# Altium schematic symbol library Switches.SchLib: 8 symbols
Pins are listed as number, name and electrical type; pins without a type are passive.

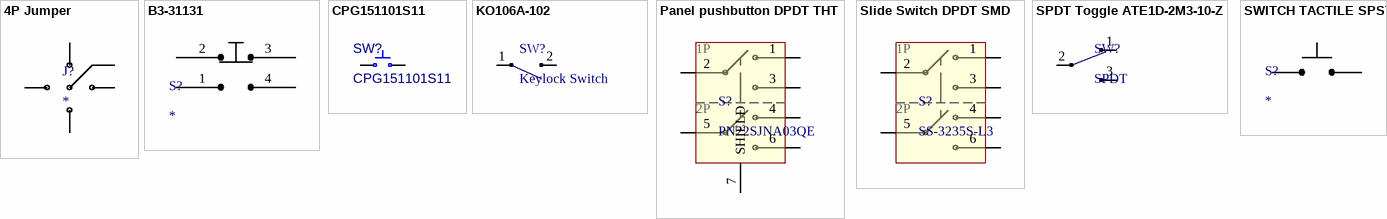
[diagram p0: symbols 4P Jumper to SWITCH TACTILE SPST]

## 4P Jumper
designator J?
0603 4 Way Solder Jumper
footprint 4P Jumper
pins: 1, 2, 3, 4, 5

## B3-31131
designator S?
Snap Action Switches 8A SPDT PC Pins High Current MIL
footprint B3-31131 (Snap Action Switches 8A SPDT PC Pins High Current MIL)
pins: 1, 2, 3, 4

## CPG151101S11
designator SW?
Manufacturer Part Number: CPG151101S11; Supplier 3: LCSC; Supplier Part Number 3: C41430893
footprint CPG151101S11 (Kailh MX Socket)
pins: 1, 2

## KO106A-102
designator SW?, comment Keylock Switch
Keylock switch, Panel Mount, SPST, 1A, 125V; Supplier 1: Digi-Key; Supplier Part Number 1: EG2625-ND
footprint KO106A-102
pins: 1, 2

## Panel pushbutton DPDT THT
designator S?, comment PN22SJNA03QE
SWITCH PUSH DPDT 0.2A 30V; Manufacturer Part Number: SS-3235S-L3; Supplier 3: LCSC; Supplier Part Number 3: C381098; Supplier 1: Digi-Key; Supplier 2: Mouser; Supplier Part Number 1: CKN1191-ND; Supplier Part Number 2: 611-PN22SJNA03QE; Supplier Part Number 3: C221849
footprint 22SJNA03QE (SWITCH PUSHBUTTON DPDT O-O 0.2A 30V)
pins: 1, 2, 3, 4, 5, 6, 7 SHIELD
text: 1P; 2P

## Slide Switch DPDT SMD
designator S?, comment SS-3235S-L3
DPDT 50mA @ 12VDC 12V On-On SMD Toggle Switches RoHS; Supplier 3: LCSC; Supplier Part Number 3: C381098; Manufacturer Part Number: SS-3235S-L3
footprint SS-3235S-L3 (SWITCH TOGGLE DPDT O-O 0.05A 12V)
pins: 1, 2, 3, 4, 5, 6
text: 1P; 2P

## SPDT Toggle ATE1D-2M3-10-Z
designator SW?, comment SPDT
Switch, SPDT, Toggle, 50mA, 48V, Thru Hole; Manufacturer: Copal Electronics Inc; Manufacturer Part Number: ATE1D-2M3-10-Z; Supplier 1: Digi-Key; Supplier Part Number 1: 563-1157-ND
footprint ATE1D-2M3-10-Z
pins: 1, 2, 3

## SWITCH TACTILE SPST
designator S?
SWITCH TACTILE SPST-NO 0.05A 12V; Manufacturer Part Number: TL3342F260QG; Supplier 1: Digi-Key; Supplier Part Number 1: EG5470CT-ND
footprint TL3342F260QG (SWITCH TACTILE SPST-NO 0.05A 12V)
pins: 1, 2, 3, 4